# Altium schematic symbol library 42PinJunctionBox.SchLib: 3 symbols
Pins are listed as number, name and electrical type; pins without a type are passive.

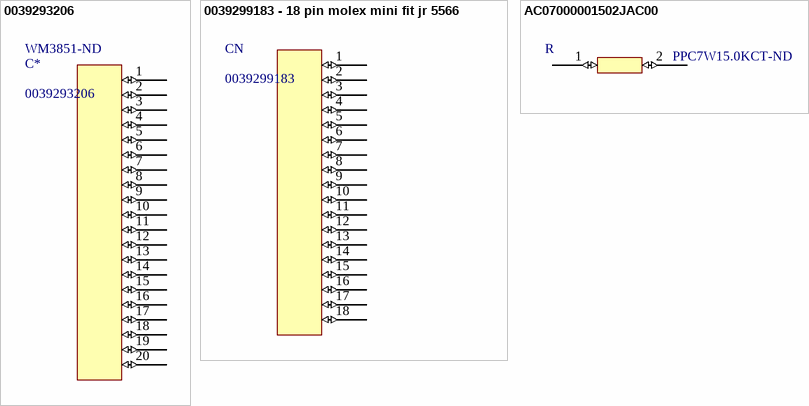
[diagram p0: symbols 0039293206 to AC07000001502JAC00]

## 0039293206
designator C*  Supplier Part Number 1: WM3851-ND
Connector Header Through Hole 20 position 0.165" (4.20mm); Manufacturer: Molex; Current Rating: 9A; Voltage Rating: 600V; Max Voltage Rating (DC): 600.6kV; Number of Positions: 20; Gender: Female; Number of Ports: 1; Contact Resistance: 10mR; Pitch: 4.2mm; Row Spacing: 0.165inch; Glow Wire Compliant: Non-compliant; Supplier 1: Digi-Key; Manufacturer Part Number: 39-29-3206; Stock 1: 4945; Pricing 1: 1=3.35, 10=2.952, 100=2.3481, 1000=1.9456, 5000=1.74433 (USD); Mount: Through Hole; Contact Plating: Tin,Copper,Gold; Contact Material: Brass; Housing Material: Nylon; Color: Natural; Housing Color: Natural; Min Operating Temperature: -40°C; Max Operating Temperature: 105°C; Number of Rows: 2; Contact Gender: Male; Packaging: Bulk; Termination: Solder; Number of Contacts: 20; Orientation: Straight; Number of Circuits: 20; Fastening Type: Ramp; Series: 5566; Contact Type: Male Pin; Max Voltage Rating (AC): 600V; Length: 43.6mm; Height: 12.8mm; Depth: 11mm; Radiation Hardening: No; RoHS Compliant: Yes; Halogen Free: Low Halogen; ComponentLink1URL: https://www.verical.com/server-webapp/html/getDatasheet?partID=299936&src-supplier=Verical; ComponentLink1Description: https://www.verical.com/server-webapp/html/getDatasheet?partID=299936&src-supplier=Verical; ComponentLink2URL: http://www.molex.com/webdocs/datasheets/pdf/en-us/0039293206_PCB_HEADERS.pdf?src-supplier=Avnet+Europe; ComponentLink2Description: http://www.molex.com/webdocs/datasheets/pdf/en-us/0039293206_PCB_HEADERS.pdf?src-supplier=Avnet+Europe; ComponentLink3URL: http://www.mouser.com/ds/2/276/0039293206_PCB_HEADERS-228435.pdf?src-supplier=Mouser; ComponentLink3Description: http://www.mouser.com/ds/2/276/0039293206_PCB_HEADERS-228435.pdf?src-supplier=Mouser; ComponentLink4URL: http://www.jameco.com/Jameco/Products/ProdDS/881602.pdf?src-supplier=Jameco; ComponentLink4Description: http://www.jameco.com/Jameco/Products/ProdDS/881602.pdf?src-supplier=Jameco
footprint 0039293206
pins: 1 (io), 2 (io), 3 (io), 4 (io), 5 (io), 6 (io), 7 (io), 8 (io), 9 (io), 10 (io), 11 (io), 12 (io), 13 (io), 14 (io), 15 (io), 16 (io), 17 (io), 18 (io), 19 (io), 20 (io)

## 0039299183 - 18 pin molex mini fit jr 5566
designator CN, comment 0039299183
Connector Header Through Hole 18 position 0.165" (4.20mm)
footprint 0039299183
pins: 1 (io), 2 (io), 3 (io), 4 (io), 5 (io), 6 (io), 7 (io), 8 (io), 9 (io), 10 (io), 11 (io), 12 (io), 13 (io), 14 (io), 15 (io), 16 (io), 17 (io), 18 (io)

## AC07000001502JAC00
designator R  Supplier Part Number 1: PPC7W15.0KCT-ND
Manufacturer: Vishay BCcomponents; Manufacturer Part Number: AC07000001502JAC00; Tolerance: 5%; Power Rating: 7W; Resistance: 15kR; Temperature Coefficient: 180ppm/°C; Voltage Rating: 324V; Supplier 1: Digi-Key; Stock 1: 0; Pricing 1: 1=2.26, 10=2.002, 25=1.8564, 50=1.7472, 100=1.5288, 250=1.3104 (USD); Mount: Through Hole; Case/Package: Axial; Number of Pins: 2; Contact Plating: Tin; Min Operating Temperature: -40°C; Max Operating Temperature: 275°C; Resistor Type: Wirewound; Package Quantity: 1; Packaging: Tape and Reel; Number of Terminations: 2; Max Power Dissipation: 7W; Voltage Rating (DC): 324V; Termination: Axial; Features: Flame Retardant Coating; Series: AC; Resistance Tolerance: 5%; Diameter: 7.5mm; Length: 1.024inch; Width: 7.49mm; Radiation Hardening: No; RoHS Compliant: Yes; ComponentLink1URL: http://www.vishay.com/docs/28730/acseries.pdf?src-supplier=Avnet; ComponentLink1Description: http://www.vishay.com/docs/28730/acseries.pdf?src-supplier=Avnet; ComponentLink2URL: http://www.vishay.com/docs/28730/acseries.pdf?src-supplier=Avnet+Europe; ComponentLink2Description: http://www.vishay.com/docs/28730/acseries.pdf?src-supplier=Avnet+Europe; ComponentLink3URL: http://www.vishay.com/docs/28730/acac-at.pdf?src-supplier=Digi-Key; ComponentLink3Description: http://www.vishay.com/docs/28730/acac-at.pdf?src-supplier=Digi-Key
footprint AC07000001502JAC00
pins: 1 (io), 2 (io)